# Altium schematic symbol library RPI_EIT_SchLib.SchLib: 25 symbols
Pins are listed as number, name and electrical type; pins without a type are passive.

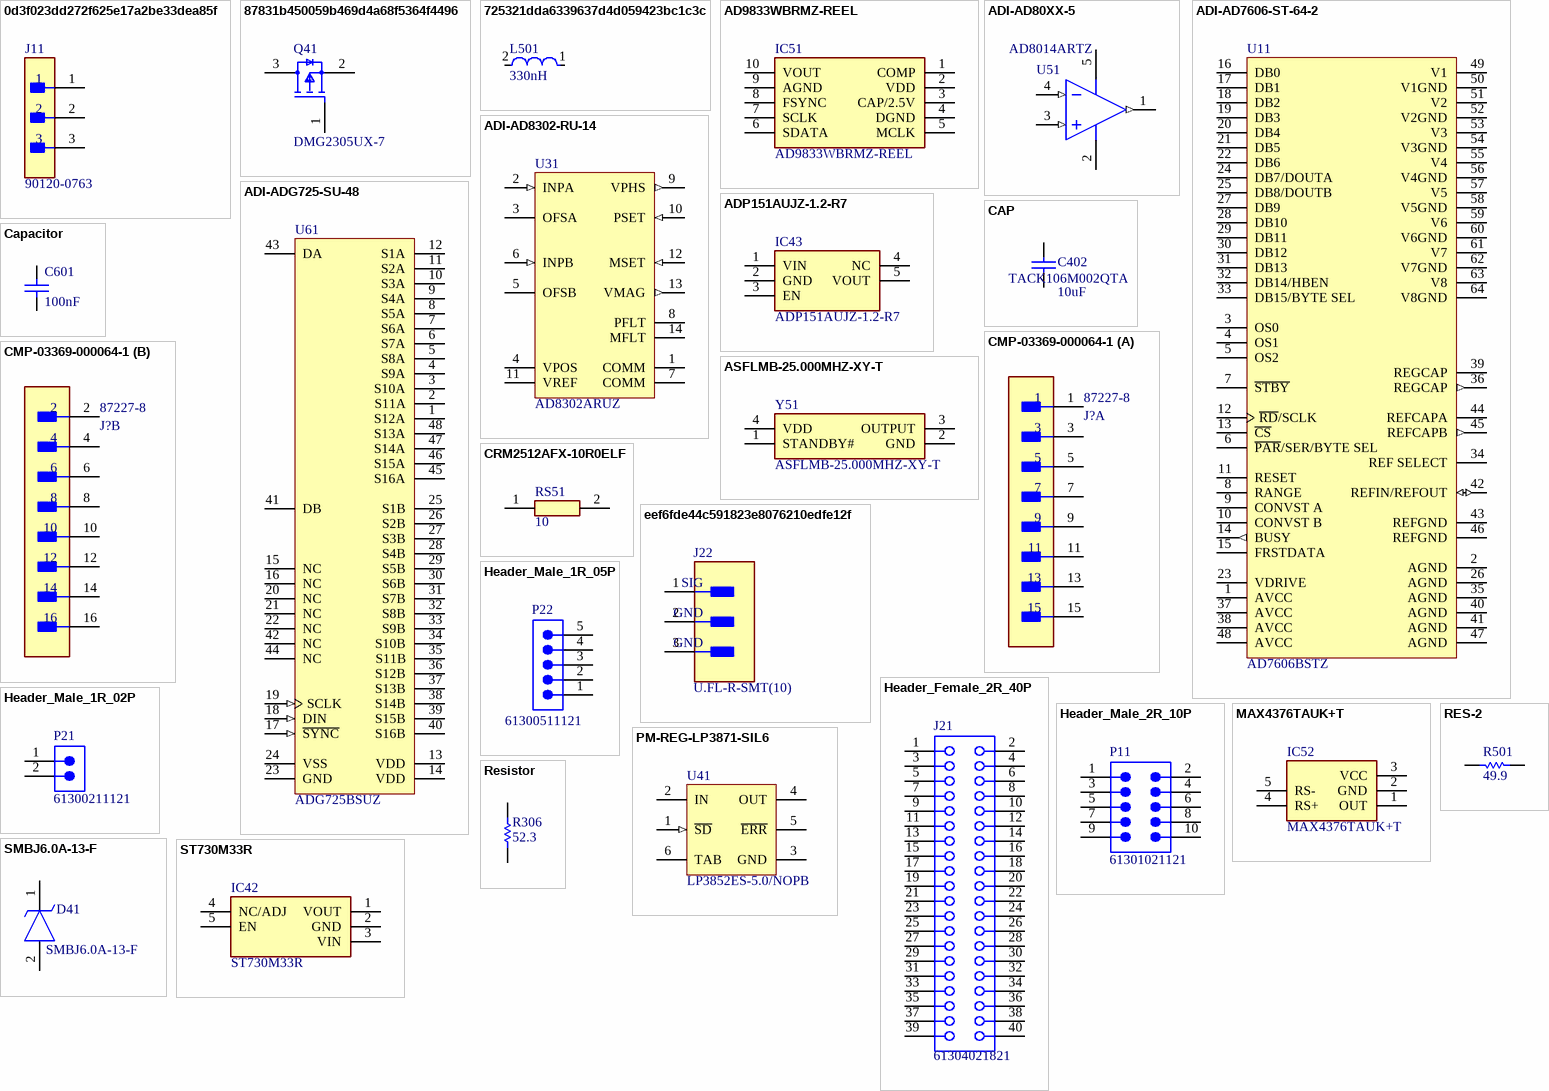
[diagram p0: symbols 0d3f023dd272f625e17a2be33dea85f to ST730M33R]

## 0d3f023dd272f625e17a2be33dea85f
designator J11, comment 90120-0763
CONN HEADER VERT 3POS 2.54MM; Manufacturer: Molex; Voltage Rating: 350V; Number Of Contacts: 3; Conn Orientation: Vertical; Current Rating: 3A; Conn Gender: Male; Package: 90120-0763; ComponentLink2Description: Datasheet; Height: 5.8mm; Manufacturer Part Number: 90120-0763; Temperature Range High: +125°C; RoHS: TRUE; ComponentLink2URL: https://www.molex.com/webdocs/datasheets/pdf/en-us/0901200763_PCB_HEADERS.pdf; Device Class L2: Headers and Wire Housings; Temperature: -55°C to +125°C; Device Class L1: Connectors; Pitch: 2.54mm; Footprint Url: https://www.molex.com/pdm_docs/sd/901200763_sd.pdf; Device Class L3: unset; Temperature Range Low: -55°C; Number Of Rows: 1; Category: Conn; Lead Free: Yes; Mouser Description: Board-To-Board Connector, C-Grid III 90120 Series, Through Hole, Header, 3, 2.54 mm; Octopart: https://octopart.com/90120-0763-molex-655433; Contact Material: Gold,Nickel; Automotive: No; Digikey Description: CONN HEADER VERT 3POS 2.54MM
footprint FP-90120-0763-MFG
pins: 1, 2, 3

## 87831b450059b469d4a68f5364f4496
designator Q41, comment DMG2305UX-7
MOSFET P-CH 20V 4.2A SOT23; Turn-On Delay Time: 10.8ns; Turn-Off Delay Time: 79.3ns; Threshold Voltage: -900mV; Rise Time: 13.7ns; Gate to Source Voltage (Vgs): 8V; Rds On Max: 52mR; Element Configuration: Single; Fall Time: 34.7ns; Max Power Dissipation: 1.4W; Drain to Source Resistance: 200mR; Number of Channels: 1; Input Capacitance: 808pF; Lead Free: Lead Free; Number of Pins: 3; Length: 3mm; Continuous Drain Current (ID): 4.2A; Contact Plating: Tin; Mount: Surface Mount; Weight: 0.000282oz; Min Operating Temperature: -55°C; Package Quantity: 3000; Drain to Source Voltage (Vdss): 20V; On-State Resistance: 52MR; Max Operating Temperature: 150°C; Height: 1.1mm; REACH SVHC: No SVHC; Packaging: Tape and Reel; Radiation Hardening: No; Case/Package: SOT-23; Width: 1.4mm
footprint FP-SOT23-IPC_A
pins: 1 GATE, 2 SOURCE, 3 DRAIN

## 725321dda6339637d4d059423bc1c3c
designator L501, comment Inductance: 330nH  (hidden comment: LQW18AN10NG00D)
Wire Wound RF Inductor 10nH ±2% 650mA 0.11Ω 0603 (1608); DC Resistance (DCR): 110mR; Q Factor: 35; Shielding: Unshielded; Test Frequency: 100MHz; Current: 550mA; Self Resonant Frequency: 6GHz; Radiation Hardening: No; Depth: 1mm; Case Code (Imperial): 0603; Inductance Tolerance: 2%; Series: LQW18A_00; Tolerance: 2%; Weight: 0.000106oz; Rated Current-Max: 650mA; Mount: Surface Mount; Series Resistance: 110mR; REACH SVHC: No SVHC; Current Rating: 650mA; Case Code (Metric): 1608; Lead Free: Lead Free; Resistor Type: Wirewound; Package Quantity: 4000; Termination: SMD/SMT; DC Current: 650mA; Height: 0.8mm; Min Operating Temperature: -55°C; Military Standard: Not; Max Operating Temperature: 125°C; Max DC Current: 650mA; Case/Package: 0603; Number of Pins: 2; Packaging: Tape and Reel; Width: 0.8mm; Length: 1.6mm
footprint IND_0402HL-821XJRU
pins: 1, 2

## AD9833WBRMZ-REEL
designator IC51
Integrated Circuit; Manufacturer_Name: Analog Devices; Datasheet Link: https://componentsearchengine.com/Datasheets/1/AD9833WBRMZ-REEL.pdf; Height: 1.1mm; Manufacturer_Part_Number: AD9833WBRMZ-REEL; Mouser Part Number: 584-AD9833WBRMZ-REEL; Mouser Price/Stock: https://www.mouser.co.uk/ProductDetail/Analog-Devices/AD9833WBRMZ-REEL?qs=pqQDoYZ2quYFMaVwD82%2FEg%3D%3D; Arrow Part Number: AD9833WBRMZ-REEL; Arrow Price/Stock: https://www.arrow.com/en/products/ad9833wbrmz-reel/analog-devices?region=nac
footprint ADI-RM-10_L (TSSOP, 10-Leads, Body 3x3mm, Pitch 0.5mm, IPC High Density)
pins: 1 COMP, 2 VDD, 3 CAP/2.5V, 4 DGND, 5 MCLK, 6 SDATA, 7 SCLK, 8 FSYNC, 9 AGND, 10 VOUT

## ADI-AD80XX-5
designator U51, comment AD8014ARTZ
Single Channel Very Low Noise Operational Amplifier, 400 MHz BW, 4 KV/us SR, Industrial, 5-pin SOT23 (RJ-5), Reel; Manufacturer: Analog Devices; Generic Part Number: AD8014; PartNumber: AD8014ARTZ-REEL7; Amplifiers Per Package: 1; Input Bias Current: 5uA; V Span Min: 4.5V; Small Signal Bandwidth: 400MHz; V Span Max: 12V; Iq/Amp: 1.3mA; Slew Rate: 4KV/us; Input Offset Voltage: 2mV; DatasheetVersion: Rev. C; ComponentLink1Description: Manufacturer URL; PackageVersion: 121608-A; PackageReference: RJ-5; ComponentLink1URL: http://www.analog.com/en/index.html; PackageDescription: 5-Pin Small Outline Transistor Package, Body 2.9 x 1.6 mm, Pitch 0.95 mm; ComponentLink2Description: Datasheet; RevisionNote: Symbol corrected, Pin 2 orientation reversed; ComponentLink2URL: http://www.analog.com/static/imported-files/data_sheets/AD8014.pdf; Mounting Technology: Surface Mount; ComponentLink3Description: Package Specification; Code_JEDEC: MO-178-AA; ComponentLink3URL: http://www.analog.com/static/imported-files/packages/PKG_PDF/SOT-23(RJ)/RJ_5.pdf
footprint ADI-RJ-5_L (SOT-23, 5-Leads, Body 2.9x1.6mm, Pitch 0.95mm, IPC High Density)
pins: 1 VOUT (out), 2 -VS (power), 3 +IN (in), 4 -IN (in), 5 +VS (power)

## ADI-AD7606-ST-64-2
designator U11, comment AD7606BSTZ
8 Channel Data Acquisition System with 16-Bit, Bipolar Input, Simultaneous Sampling Analog-to-Digital Converter with Parallel, Serial and SPI Interface, 200KSPS, -40 to +85 degC, ST-64-2, Pb-Free, Tray; Generic Part Number: AD7606; Manufacturer: Analog Devices; Throughput Rate (SPS): 200K; Resolution (Bits): 16; Channels: 8; Interface: Par, Ser, SPI; ComponentLink2Description: Datasheet; ComponentLink1URL: http://www.analog.com/en/index.html; ComponentLink4URL: http://www.analog.com/en/analog-to-digital-converters/ad-converters/ad7606/products/product.html; DatasheetVersion: Rev.C; RoHS: Y; Code_JEDEC: MS-026-BCD; PartNumber: AD7606BSTZ; PackageVersion: 051706-A; Mounting Technology: Surface Mount; ComponentLink3URL: http://www.analog.com/static/imported-files/packages/PKG_PDF/LQFP%28ST%29/ST_64_2.pdf; PackageDescription: 64-Lead Low Profile Quad Flat Package [LQFP]; Packing: Tray; PackageReference: ST-64-2; ComponentLink1Description: Manufacturer URL; ComponentLink4Description: Product URL; ComponentLink2URL: http://www.analog.com/static/imported-files/data_sheets/AD7606_7606-6_7606-4.pdf; ComponentLink3Description: Package Specification; Supplier: Mouser; Supplier Part Number: 584-AD7606BSTZ; Manufacturer Part Number: AD7606BSTZ; Category: Analog to Digital Converters (ADCs); Stock: 2011; Pricing: 1=39,63, 10=37, 50=32,25, 100=31,46, 1000=31,46, 10000=31,46 (USD); ComponentLink5URL: https://datasheet.ciiva.com/1143/1595896-1143555.pdf?src-supplier=Element14; ComponentLink5Description: https://datasheet.ciiva.com/1143/1595896-1143555.pdf?src-supplier=Element14; ComponentLink6URL: https://datasheet.ciiva.com/3037/ad7606-7606-6-7606-4-3037717.pdf?src-supplier=Avnet; ComponentLink6Description: https://datasheet.ciiva.com/3037/ad7606-7606-6-7606-4-3037717.pdf?src-supplier=Avnet
footprint ST-64-2_L (Thin QFP, 64-Leads, Body 10x10mm, Pitch 0.5mm, IPC High Density)
pins: 1 AVCC (power) "Analog Supply Voltage, 4.75 V to 5.25 V. This supply voltage is applied to the internal front-end amplifiers and to the ADC core. These supply pins should be decoupled to AGND.", 2 AGND (power) "Analog Ground. These pins are the ground reference points for all analog circuitry on the AD7606. All analog input signals and external reference signals should be referred to these pins. All six of these AGND pins should (See Datasheet)", 3 OS0 "Oversampling Mode Pins. Logic inputs. These inputs are used to select the oversampling ratio. OS 2 is the MSB control bit, and OS 0 is the LSB control bit. See the Digital Filter section for more details about the (See Datasheet)", 4 OS1 "Oversampling Mode Pins. Logic inputs. These inputs are used to select the oversampling ratio. OS 2 is the MSB control bit, and OS 0 is the LSB control bit. See the Digital Filter section for more details about the (See Datasheet)", 5 OS2 "Oversampling Mode Pins. Logic inputs. These inputs are used to select the oversampling ratio. OS 2 is the MSB control bit, and OS 0 is the LSB control bit. See the Digital Filter section for more details about the (See Datasheet)", 6 ~{PAR}/SER/BYTE SEL "Parallel/Serial/Byte Interface Selection Input. Logic input. If this pin is tied to a logic low, the parallel interface is selected. If this pin is tied to a logic high,the serial interface is selected. Parallel byte (See Datasheet)", 7 ~{STBY} "Standby Mode Input. This pin is used to place the AD7606/AD7606-6/AD7606-4 into one of two power-down modes: standby mode or shutdown mode. The power-down mode entered depends on the state of the RANGE pin, as shown in Table (See Datasheet)", 8 RANGE "Analog Input Range Selection. Logic input. The polarity on this pin deter-mines the input range of the analog input channels. If this pin is tied to a logic high, the analog input range is +/-10 V for all channels. If this (See Datasheet)", 9 CONVST A "Conversion Start Input A. Logic inputs. These logic inputs are used to initiate conversions on the analog input channels. For simultaneous sampling of all input channels, CONVST A and CONVST B can be shorted together, and a (See Datasheet)", 10 CONVST B "Conversion Start Input B. Logic inputs. These logic inputs are used to initiate conversions on the analog input channels. For simultaneous sampling of all input channels, CONVST A and CONVST B can be shorted together, and a (See Datasheet)", 11 RESET "Reset Input. When set to logic high, the rising edge of RESET resets the AD7606/AD7606-6/AD7606-4. The part should receive a RESET pulse after power-up. The RESET high pulse should typically be 50 ns wide. If a RESET pulse (See Datasheet)", 12 ~{RD}/SCLK "Parallel Data Read Control Input When the Parallel Interface Is Selected (R\D\)/ Serial Clock Input When the Serial Interface Is Selected (SCLK). When both C\S\ and R\D\ are logic low in parallel mode, the output bus is (See Datasheet)", 13 ~{CS} "Chip Select. This active low logic input frames the data transfer. When both C\S\ and R\D\ are logic low in parallel mode, the DB[15:0] output bus is enabled and the conversion result is output on the parallel data bus lines.(See Datasheet)", 14 BUSY (out) "Busy Output. This pin transitions to a logic high after both CONVST A and CONVST B rising edges and indicates that the conversion process has started. The BUSY output remains high until the conversion process for all (See Datasheet)", 15 FRSTDATA (hiz) "Digital Output. The FRSTDATA output signal indicates when the first channel, V1, is being read back on the parallel, byte, or serial interface. When the C\S\ input is high, the FRSTDATA output pin is in three-state. The (See Datasheet)", 16 DB0 "Parallel Output Data Bit, DB6 to DB0. When P\A\R\/SER/BYTE SEL = 0, this pin acts as three-state parallel digital input/output pin. When C\S\ and R\D\ are low, these pins are used to output DB6 to DB0 of the conversion (See Datasheet)", 17 DB1 "Parallel Output Data Bit, DB6 to DB0. When P\A\R\/SER/BYTE SEL = 0, this pin acts as three-state parallel digital input/output pin. When C\S\ and R\D\ are low, these pins are used to output DB6 to DB0 of the conversion (See Datasheet)", 18 DB2 "Parallel Output Data Bit, DB6 to DB0. When P\A\R\/SER/BYTE SEL = 0, this pin acts as three-state parallel digital input/output pin. When C\S\ and R\D\ are low, these pins are used to output DB6 to DB0 of the conversion (See Datasheet)", 19 DB3 "Parallel Output Data Bit, DB6 to DB0. When P\A\R\/SER/BYTE SEL = 0, this pin acts as three-state parallel digital input/output pin. When C\S\ and R\D\ are low, these pins are used to output DB6 to DB0 of the conversion (See Datasheet)", 20 DB4 "Parallel Output Data Bit, DB6 to DB0. When P\A\R\/SER/BYTE SEL = 0, this pin acts as three-state parallel digital input/output pin. When C\S\ and R\D\ are low, these pins are used to output DB6 to DB0 of the conversion (See Datasheet)", 21 DB5 "Parallel Output Data Bit, DB6 to DB0. When P\A\R\/SER/BYTE SEL = 0, this pin acts as three-state parallel digital input/output pin. When C\S\ and R\D\ are low, these pins are used to output DB6 to DB0 of the conversion (See Datasheet)", 22 DB6 "Parallel Output Data Bit, DB6 to DB0. When P\A\R\/SER/BYTE SEL = 0, this pin acts as three-state parallel digital input/output pin. When C\S\ and R\D\ are low, these pins are used to output DB6 to DB0 of the conversion (See Datasheet)", 23 VDRIVE (power) "Logic Power Supply Input. The voltage (2.3 V to 5.25 V) supplied at this pin determines the operating voltage of the interface. This pin is nominally at the same supply as the supply of the host interface (that is, DSP and (See Datasheet)", 24 DB7/DOUTA "Parallel Output Data Bit 7 (DB7)/Serial Interface Data Output Pin (DoutA). When P\A\R\/SER/BYTE SEL = 0, this pin acts as a three-state parallel digital input/output pin. When C\S\ and R\D\ are low, this pin is used to (See Datasheet)", 25 DB8/DOUTB "Parallel Output Data Bit 8 (DB8)/Serial Interface Data Output Pin (DoutB).  When P\A\R\/SER/BYTE SEL = 0, this pin acts as a three-state parallel digital input/output pin. When C\S\ and R\D\ are low, this pin is used to (See Datasheet)", 26 AGND (power) "Analog Ground. These pins are the ground reference points for all analog circuitry on the AD7606. All analog input signals and external reference signals should be referred to these pins. All six of these AGND pins should (See Datasheet)", 27 DB9 "Parallel Output Data Bit, DB13 to DB9. When P\A\R\/SER/BYTE SEL = 0, this pin acts as three-state parallel digital input/output pin. When C\S\ and R\D\ are low, these pins are used to output DB13 to DB9 of the conversion (See Datasheet)", 28 DB10 "Parallel Output Data Bit, DB13 to DB9. When P\A\R\/SER/BYTE SEL = 0, this pin acts as three-state parallel digital input/output pin. When C\S\ and R\D\ are low, these pins are used to output DB13 to DB9 of the conversion (See Datasheet)", 29 DB11 "Parallel Output Data Bit, DB13 to DB9. When P\A\R\/SER/BYTE SEL = 0, this pin acts as three-state parallel digital input/output pin. When C\S\ and R\D\ are low, these pins are used to output DB13 to DB9 of the conversion (See Datasheet)", 30 DB12 "Parallel Output Data Bit, DB13 to DB9. When P\A\R\/SER/BYTE SEL = 0, this pin acts as three-state parallel digital input/output pin. When C\S\ and R\D\ are low, these pins are used to output DB13 to DB9 of the conversion (See Datasheet)", 31 DB13 "Parallel Output Data Bit, DB13 to DB9. When P\A\R\/SER/BYTE SEL = 0, this pin acts as three-state parallel digital input/output pin. When C\S\ and R\D\ are low, these pins are used to output DB13 to DB9 of the conversion (See Datasheet)", 32 DB14/HBEN "Parallel Output Data Bit 14 (DB14)/High Byte Enable (HBEN). When P\A\R\/ SER/BYTE SEL = 0, this pin acts as a three-state parallel digital output pin. When C\S\ and R\D\ are low, this pin is used to output DB14 of the (See Datasheet)", 33 DB15/BYTE SEL "Parallel Output Data Bit 15 (DB15)/Parallel Byte Mode Select (BYTE SEL).  When P\A\R\/SER/BYTE SEL = 0, this pin acts as a three-state parallel digital output pin. When C\S\ and R\D\ are low, this pin is used to output DB15 (See Datasheet)", 34 REF SELECT "Internal/External Reference Selection Input. Logic input. If this pin is set to logic high, the internal reference is selected and enabled. If this pin is set to logic low, the internal reference is disabled and an external (See Datasheet)", 35 AGND (power) "Analog Ground. These pins are the ground reference points for all analog circuitry on the AD7606. All analog input signals and external reference signals should be referred to these pins. All six of these AGND pins should (See Datasheet)", 36 REGCAP (out) "Decoupling Capacitor Pin for Voltage Output from Internal Regulator.  These output pins should be decoupled separately to AGND using a 1 uF capacitor. The voltage on these pins is in the range of 2.5 V to 2.7 V.", 37 AVCC (power) "Analog Supply Voltage, 4.75 V to 5.25 V. This supply voltage is applied to the internal front-end amplifiers and to the ADC core. These supply pins should be decoupled to AGND.", 38 AVCC (power) "Analog Supply Voltage, 4.75 V to 5.25 V. This supply voltage is applied to the internal front-end amplifiers and to the ADC core. These supply pins should be decoupled to AGND.", 39 REGCAP "Decoupling Capacitor Pin for Voltage Output from Internal Regulator.  These output pins should be decoupled separately to AGND using a 1 uF capacitor. The voltage on these pins is in the range of 2.5 V to 2.7 V.", 40 AGND (power) "Analog Ground. These pins are the ground reference points for all analog circuitry on the AD7606. All analog input signals and external reference signals should be referred to these pins. All six of these AGND pins should (See Datasheet)", 41 AGND (power) "Analog Ground. These pins are the ground reference points for all analog circuitry on the AD7606. All analog input signals and external reference signals should be referred to these pins. All six of these AGND pins should (See Datasheet)", 42 REFIN/REFOUT (io) "Reference Input (REFIN)/Reference Output (REFOUT). The on-chip reference of 2.5 V is available on this pin for external use if the REF SELECT pin is set to logic high. Alternatively, the internal reference can be disabled by (See Datasheet)", 43 REFGND (power) "Reference Ground Pins. These pins should be connected to AGND.", 44 REFCAPA "Reference Buffer Output Force/Sense Pins. These pins must be connected together and decoupled to AGND using a low ESR, 10 uF ceramic capacitor. The voltage on these pins is typically 4.5 V.", 45 REFCAPB (out) "Reference Buffer Output Force/Sense Pins. These pins must be connected together and decoupled to AGND using a low ESR, 10 uF ceramic capacitor. The voltage on these pins is typically 4.5 V.", 46 REFGND (power) "Reference Ground Pins. These pins should be connected to AGND.", 47 AGND (power) "Analog Ground. These pins are the ground reference points for all analog circuitry on the AD7606. All analog input signals and external reference signals should be referred to these pins. All six of these AGND pins should (See Datasheet)", 48 AVCC (power) "Analog Supply Voltage, 4.75 V to 5.25 V. This supply voltage is applied to the internal front-end amplifiers and to the ADC core. These supply pins should be decoupled to AGND.", 49 V1 "Analog Input. This pin is a single-ended analog input. The analog input range of this channel is determined by the RANGE pin.", 50 V1GND (power) "Analog Input Ground Pins. These pins correspond to Analog Input Pin V1 and Analog Input Pin V2. All analog input AGND pins should connect to the AGND plane of a system.", 51 V2 "Analog Input. This pin is a single-ended analog input. The analog input range of this channel is determined by the RANGE pin.", 52 V2GND (power) "Analog Input Ground Pins. These pins correspond to Analog Input Pin V1 and Analog Input Pin V2. All analog input AGND pins should connect to the AGND plane of a system.", 53 V3 "Analog Input 3. For the AD7606-4, this is an AGND pin.", 54 V3GND (power) "Analog Input Ground Pin. For the AD7606-4, this is an AGND pin.", 55 V4 "Analog Input 4. For the AD7606-6 and the AD7606-4, this is an AGND pin.", 56 V4GND (power) "Analog Input Ground Pin. For the AD7606-6 and AD7606-4, this is an AGND pin.", 57 V5 "Analog Inputs. These pins are single-ended analog inputs. The analog input range of these channels is determined by the RANGE pin.", 58 V5GND (power) "Analog Input Ground Pins. All analog input AGND pins should connect to the AGND plane of a system.", 59 V6 "Analog Inputs. These pins are single-ended analog inputs.", 60 V6GND (power) "Analog Input Ground Pins. All analog input AGND pins should connect to the AGND plane of a system.", 61 V7 "Analog Input Pins. For the AD7606-4, this is an AGND pin.", 62 V7GND (power) "Analog Input Ground Pins. For the AD7606-4, this is an AGND pin.", 63 V8 "Analog Input Pin. For the AD7606-4 and AD7606-6, this is an AGND pin.", 64 V8GND (power) "Analog Input Ground Pin. For the AD7606-4 and AD7606-6, this is an AGND pin."

## ADI-AD8302-RU-14
designator U31, comment AD8302ARUZ
LF-2.7 GHz RF/IF Gain and Phase Detector, 60ns Response Time, RU-14, Pb-Free, 96 Tube; Voltage Supply (V): 2.7 to 5.5; RF Frequency (MHz): 2700; Dynamic Range (dB): 60dB; Supply Current: 19mA; Temp Stability (dB): 1dB; Product Description: Dual-Channel Gain and Phase Outputs; ComponentLink1URL: www.analog.com; Response Time (ns typ): 60ns; ComponentLink1Description: Manufacturer URL; Code_JEDEC: MO-153AB-1; ComponentLink3URL: http://www.analog.com/static/imported-files/packages/36057385283879153717235186773RU14.pdf; PackageReference: RU-14; PackageVersion: Aug-2002; DatasheetVersion: Rev. A; ComponentLink2URL: http://www.analog.com/static/imported-files/data_sheets/AD8302.pdf; ComponentLink3Description: Package Specification; PackageDescription: 14-Lead Thin Shrink Small Outline Package [TSSOP]; ComponentLink2Description: Datasheet
footprint ADI-RU-14_L (TSOP, 14-Leads, Body 5x4.4mm, Pitch 0.65mm, IPC High Density)
pins: 1 COMM (power) "Device Common. Connect to low impedance ground.", 2 INPA (in) "High Input Impedance to Channel A. Must be ac-coupled.", 3 OFSA "A capacitor to ground at this pin sets the offset compensation filter corner and provides input decoupling.", 4 VPOS (power) "Voltage Supply (VS), 2.7 V to 5.5 V.", 5 OFSB "A capacitor to ground at this pin sets the offset compensation filter corner and provides input decoupling.", 6 INPB (in) "Input to Channel B. Same structure as INPA.", 7 COMM (power) "Device Common. Connect to low impedance ground.", 8 PFLT "Low Pass Filter Terminal for the Phase Output.", 9 VPHS (out) "Single-Ended Output Proportional to the Phase Difference between INPA and INPB.", 10 PSET (in) "Feedback Pin for Scaling of VPHS Output Voltage in Measurement Mode. Apply a setpoint voltage for controller mode.", 11 VREF (power) "Internally Generated Reference Voltage (1.8 V Nominal)", 12 MSET (in) "Feedback Pin for Scaling of VMAG Output Voltage Measurement Mode.Accepts a set point voltage in controller mode", 13 VMAG (out) "Single-Ended Output. Output voltage proportional to the decibel ratio of signals applied to INPA and INPB.", 14 MFLT "Low Pass Filter Terminal for the Magnitude Output"

## ADI-ADG725-SU-48
designator U61, comment ADG725BSUZ
1.8 to 5.5 V / +/-2.5 V, 4 Ohm, Serially Controlled, 16-Channel Analog Multiplexer, -40 to 85 degC, 48-pin QFP (SU-48), Tray; Manufacturer: Analog Devices; Supply V Guar Performance: Dual_(+/-2.5V), Single_(+3V), Single_(+5V); Max Analog Signal Range: Vss to Vdd; Ron (ohms): 4; t transition (s): 42n; Bandwidth (Hz): 34M; ComponentLink3Description: Package Specification; PackageDescription: 48-Pin Thin Plastic Quad Flat Package, Body 7 x 7 mm, Pitch 0.5 mm; ComponentLink2Description: Datasheet; ComponentLink2URL: http://www.analog.com/static/imported-files/data_sheets/ADG725_731.pdf; Packing: Tray; ComponentLink3URL: http://www.analog.com/static/imported-files/packages/470644706845302410119987SU48_7x7.pdf; PackageReference: SU-48; PartNumber: ADG725BSUZ; Code_JEDEC: MS-026ABC; DatasheetVersion: Rev. A; ComponentLink1Description: Manufacturer URL; ComponentLink1URL: http://www.analog.com/en/index.html; Mounting Technology: Surface Mount
footprint ADI-SU-48_N (QFP, 48-Leads, Body 7x7mm, Pitch 0.5mm, IPC Medium Density)
pins: 1 S12A "Source. May be an input or output.", 2 S11A "Source. May be an input or output.", 3 S10A "Source. May be an input or output.", 4 S9A "Source. May be an input or output.", 5 S8A "Source. May be an input or output.", 6 S7A "Source. May be an input or output.", 7 S6A "Source. May be an input or output.", 8 S5A "Source. May be an input or output.", 9 S4A "Source. May be an input or output.", 10 S3A "Source. May be an input or output.", 11 S2A "Source. May be an input or output.", 12 S1A "Source. May be an input or output.", 13 VDD (power) "Power Supply Input. These parts can be operated from a single supply of 1.8 V to 5.5 V and a dual supply of +/-2.5 V.", 14 VDD (power) "Power Supply Input. These parts can be operated from a single supply of 1.8 V to 5.5 V and a dual supply of +/-2.5 V.", 15 NC "No connect.", 16 NC "No connect.", 17 ~{SYNC} (in) "Active Low Control Input. This is the frame synchronization signal for the input data. When S\Y\N\C\ goes low, it powers on the SCLK and DIN buffers and the input Shift Register is enabled. An 8-bit counter is also enabled. (See Datasheet)", 18 DIN (in) "Serial Data Input. Data is clocked into the 8-bit Input Register MSB first on the falling edge of the serial clock input.", 19 SCLK (in) "Serial Clock Input. Data is clocked into the Input Shift Register on the falling edge of the serial clock input. These devices can accommodate serial input rates of up to 30 MHz.", 20 NC "No connect.", 21 NC "No connect.", 22 NC "No connect.", 23 GND (power) "Ground Reference", 24 VSS (power) "Most Negative Power Supply in a Dual-Supply Application. In single-supply applications, connect to GND.", 25 S1B "Source. May be an input or output.", 26 S2B "Source. May be an input or output.", 27 S3B "Source. May be an input or output.", 28 S4B "Source. May be an input or output.", 29 S5B "Source. May be an input or output.", 30 S6B "Source. May be an input or output.", 31 S7B "Source. May be an input or output.", 32 S8B "Source. May be an input or output.", 33 S9B "Source. May be an input or output.", 34 S10B "Source. May be an input or output.", 35 S11B "Source. May be an input or output.", 36 S12B "Source. May be an input or output.", 37 S13B "Source. May be an input or output.", 38 S14B "Source. May be an input or output.", 39 S15B "Source. May be an input or output.", 40 S16B "Source. May be an input or output.", 41 DB "Drain. May be an input or output.", 42 NC "No connect.", 43 DA "Drain. May be an input or output.", 44 NC "No connect.", 45 S16A "Source. May be an input or output.", 46 S15A "Source. May be an input or output.", 47 S14A "Source. May be an input or output.", 48 S13A "Source. May be an input or output."

## ADP151AUJZ-1.2-R7
designator IC43
Integrated Circuit; Manufacturer_Name: Analog Devices; Datasheet Link: https://componentsearchengine.com/Datasheets/2/ADP151AUJZ-1.2-R7.pdf; Height: 1mm; Manufacturer_Part_Number: ADP151AUJZ-1.2-R7; Mouser Part Number: 584-ADP151AUJZ-1.2R7; Mouser Price/Stock: https://www.mouser.co.uk/ProductDetail/Analog-Devices/ADP151AUJZ-1.2-R7?qs=WIvQP4zGanhSFSaaw6omsw%3D%3D; Arrow Part Number: ADP151AUJZ-1.2-R7; Arrow Price/Stock: https://www.arrow.com/en/products/adp151aujz-1.2-r7/analog-devices?region=nac
footprint ADI-UJ-5_L (SOT23, 5-Leads, Body 2.9x1.6mm, Pitch 0.95mm, IPC High Density)
pins: 1 VIN, 2 GND, 3 EN, 4 NC, 5 VOUT

## ASFLMB-25.000MHZ-XY-T
designator Y51
Crystal or Oscillator; Manufacturer_Name: ABRACON; Datasheet Link: https://abracon.com/Oscillators/ASFLMB.pdf; Height: 0.9mm; Manufacturer_Part_Number: ASFLMB-25.000MHZ-XY-T; Mouser Part Number: 815-ASFLMB-25-XY-T; Mouser Price/Stock: https://www.mouser.co.uk/ProductDetail/ABRACON/ASFLMB-25.000MHZ-XY-T?qs=CnD89xF1VSmONT2LProkzQ%3D%3D; Arrow Part Number: ASFLMB-25.000MHZ-XY-T; Arrow Price/Stock: https://www.arrow.com/en/products/asflmb-25.000mhz-xy-t/abracon
footprint FP-ASFL3-MFG
pins: 1 STANDBY#, 2 GND, 3 OUTPUT, 4 VDD

## CAP
designator C402, comment TACK106M002QTA  Capacitance Const: 10uF
Manufacturer: AVX Interconnect / Elco; Part Number: TACK106M002QTA
footprint CAPC1005X70X10LL20T00 (Chip Capacitor, 2-Leads, Body 1.00x0.50mm, IPC High Density)
pins: 1, 2
1 alternate drawing of the same symbol

## Capacitor
designator C601, comment value 100nF  (hidden comment: generic)
Device Class L1: Passive Components; Device Class L2: Capacitors
footprint CAPC1005X55X30LL05T10 (Chip Capacitor, 2-Leads, Body 1.00x0.50mm, IPC High Density)
footprint FP-C0603C-CF-IPC_A
pins: 1, 2

## CMP-03369-000064-1
designator J?, comment 87227-8
CONN HEADER VERT 16POS 2.54MM; Manufacturer: TE Connectivity; Conn Gender: Male; Conn Orientation: Straight; Current Rating: 3A; Number Of Contacts: 16; Mouser Description: Headers & Wire Housings UNSHRD VERT DUAL 16; Lead Free: Yes; Digikey Description: CONN HEADER VERT 16POS 2.54MM; Device Class L3: unset; Automotive: No; Height: 0.428inch; Temperature Range Low: -65°C; Device Class L1: Connectors; RoHS: TRUE; Pitch: 2.54mm; Package: 0; Manufacturer Part Number: 87227-8; Number Of Rows: 2; Footprint Url: https://www.te.com/commerce/DocumentDelivery/DDEController?Action=showdoc&DocId=Customer+Drawing%7F87227%7FH4%7Fpdf%7FEnglish%7FENG_CD_87227_H4.pdf%7F87227-8; ComponentLink2URL: https://www.te.com/usa-en/product-87227-8.datasheet.pdf; ComponentLink2Description: Datasheet; Temperature: -65°C to +105°C; Category: Conn; Temperature Range High: +105°C; Octopart: https://octopart.com/87227-8-te+connectivity-39407754; Device Class L2: Headers and Wire Housings; Contact Material: Gold,Nickel
footprint FP-87227-8-MFG
part A pins: 1, 3, 5, 7, 9, 11, 13, 15
part B pins: 2, 4, 6, 8, 10, 12, 14, 16

## CRM2512AFX-10R0ELF
designator RS51, comment 10
Res Thick Film 2512 10 Ohm 1% 2W ±100ppm/°C Molded SMD SMD Paper T/R; Manufacturer_Name: Bourns; Manufacturer_Part_Number: CRM2512AFX-10R0ELF; Datasheet Link: http://www.bourns.com/data/global/pdfs/CRM0805_1206_2010.pdf; Height: 0.8mm; Mouser Part Number: 652-CRM2512AFX10R0LF; Mouser Price/Stock: https://www.mouser.co.uk/ProductDetail/Bourns/CRM2512AFX-10R0ELF?qs=wd5RIQLrsJh9GcgTtlCG0w%3D%3D; Arrow Part Number: CRM2512AFX-10R0ELF; Arrow Price/Stock: https://www.arrow.com/en/products/crm2512afx-10r0elf/bourns; Supplier: Farnell; Supplier Part Number: 2824741; Manufacturer: Bourns; Manufacturer Part Number: CRM2512AFX-10R0ELF; RoHS: No; Category: Chip SMD Resistors; Stock: 3780; Pricing: 10=0,395, 100=0,312, 500=0,244, 1000=0,209, 2000=0,202 (EUR); ComponentLink1URL: http://www.farnell.com/datasheets/2552937.pdf?src-supplier=Farnell; ComponentLink1Description: http://www.farnell.com/datasheets/2552937.pdf?src-supplier=Farnell; ComponentLink2URL: http://www.farnell.com/datasheets/2552937.pdf?src-supplier=Newark; ComponentLink2Description: http://www.farnell.com/datasheets/2552937.pdf?src-supplier=Newark; ComponentLink3URL: http://www.bourns.com/docs/product-datasheets/crm-a.pdf?src-supplier=Digi-Key; ComponentLink3Description: http://www.bourns.com/docs/product-datasheets/crm-a.pdf?src-supplier=Digi-Key; ComponentLink4URL: https://www.bourns.com/docs/product-datasheets/crm-a.pdf?src-supplier=Digi-Key; ComponentLink4Description: https://www.bourns.com/docs/product-datasheets/crm-a.pdf?src-supplier=Digi-Key; ComponentLink5URL: https://datasheet.octopart.com/CRM2512AFX-10R0ELF-Bourns-datasheet-99878395.pdf?src-supplier=Master+Electronics; ComponentLink5Description: https://datasheet.octopart.com/CRM2512AFX-10R0ELF-Bourns-datasheet-99878395.pdf?src-supplier=Master+Electronics; ComponentLink6URL: https://datasheet.ciiva.com/6550/crm-6550127.pdf?src-supplier=Digi-Key; ComponentLink6Description: https://datasheet.ciiva.com/6550/crm-6550127.pdf?src-supplier=Digi-Key; ComponentLink7URL: https://datasheet.ciiva.com/9122/crm-9122397.pdf?src-supplier=Avnet; ComponentLink7Description: https://datasheet.ciiva.com/9122/crm-9122397.pdf?src-supplier=Avnet; Supplier 1: Farnell; Supplier Part Number 1: 2824741
footprint RESC6331X80N
pins: 1, 2

## eef6fde44c591823e8076210edfe12f
designator J22, comment U.FL-R-SMT(10)
CONN U.FL RCPT STR 50 OHM SMD; Plating: Silver; Connector Type: Coaxial; Frequency: 6GHz; Impedance: 50R; Body Material: Bronze; Dielectric Material: Polymer; Contact Plating: Gold; Termination: Solder; Orientation: Vertical; Contact Material: Brass; Min Operating Temperature: -40°C; Mount: Surface Mount; Lead Free: Lead Free; Max Operating Temperature: 90°C; Radiation Hardening: No; Packaging: Tape and Reel; Body Plating: Silver; Fastening Type: Snap; Max Frequency: 6GHz; Depth: 3.1mm; Package Quantity: 1; Case/Package: SMD/SMT; Housing Color: Beige; Length: 3mm
footprint FP-U_FL-R-SMT_10-MFG
pins: 1 SIG, 2 GND (power), 3 GND (power)

## Header_Female_2R_40P
designator J21, comment 61304021821
NexarPartId: 61924769; Gender: Female; Contact Resistance: 20mΩ; Current Rating: 3A; Operating Supply Voltage: 250V; Orientation: Vertical; Lead Pitch: 2.54mm; Number of Pins: 40; RoHS: Non-Compliant
footprint 61304021821 (Socket Header, Pitch 2.54 mm, THT, Vertical, dual row, 40p)
pins: 1, 2, 3, 4, 5, 6, 7, 8, 9, 10, 11, 12, 13, 14, 15, 16, 17, 18, 19, 20, 21, 22, 23, 24, 25, 26, 27, 28, 29, 30, 31, 32, 33, 34, 35, 36, 37, 38, 39, 40

## Header_Male_1R_02P
designator P21, comment 61300211121
NexarPartId: 20081794; Number of Contacts: 2; Pitch: 2.54mm; Connector Type: Male Pin; Voltage Rating: 250V; Current Rating: 3A; Gender: Male; Contact Resistance: 20mΩ; Height: 8.94mm; Lead Free: Lead Free; Number of Pins: 2; Termination: Through Hole; RoHS: Compliant; Lead Pitch: 2.54mm; REACH SVHC: No SVHC; Housing Material: PBT; Contact Mating Length: 5.9944mm; Min Operating Temperature: -40°C; Orientation: Vertical; Contact Material: Copper; Contact Gender: Male; Max Operating Temperature: 125°C; Number of Rows: 1; Number of Positions: 2; Packaging: Bulk; Contact Plating: Gold; Mount: Through Hole; Color: Black; Operating Supply Voltage: 250V
footprint 61300211121 (Pin Header, pitch 2.54 mm, THT, Vertical, single row, 2p)
pins: 1, 2

## Header_Male_1R_05P
designator P22, comment 61300511121
NexarPartId: 32855526; Connector Type: Male Pin; Gender: Male; Contact Resistance: 20mΩ; Pitch: 2.54mm; Operating Supply Voltage: 250V; Current Rating: 3A; Number of Contacts: 5; Lead Free: Lead Free; Color: Black; Packaging: Bulk; Lead Pitch: 2.54mm; Contact Material: Copper; Min Operating Temperature: -40°C; Contact Mating Length: 5.9944mm; Voltage Rating: 250V; Number of Pins: 5; Number of Positions: 5; Height: 8.89mm; Orientation: Vertical; REACH SVHC: Unknown; RoHS: Compliant; Contact Plating: Gold; Max Operating Temperature: 105°C; Mount: Through Hole; Number of Rows: 1; Termination: Solder
footprint 61300511121 (Pin Header, pitch 2.54 mm, THT, Vertical, single row, 5p)
pins: 1, 2, 3, 4, 5

## Header_Male_2R_10P
designator P11, comment 61301021121
NexarPartId: 18818163; Connector Type: Male Pin; Insulation Resistance: 1GΩ; Row Spacing: 2.54mm; Insulation: Insulated; Number of Positions: 10; Current Rating: 3A; Voltage Rating: 250V; Gender: Male; Contact Resistance: 20mΩ; Contact Gender: Male; Number of Rows: 2; Min Operating Temperature: -40°C; Mount: Through Hole; Packaging: Bulk; Length: 12.7mm; Pitch: 2.54mm; RoHS: Compliant; Height: 2.54mm; Lead Pitch: 2.54mm; Number of Pins: 10; Housing Material: PBT; Orientation: Vertical; Flammability Rating: UL94 V-0; Termination: Through Hole; Width: 12.7mm; Color: Black; Contact Mating Length: 5.9944mm; Max Operating Temperature: 105°C; Operating Supply Voltage: 250V; Contact Material: Copper; Number of Contacts: 10; Contact Plating: Gold; REACH SVHC: Unknown
footprint 61301021121 (Pin Header, pitch 2.54 mm, THT, Vertical, dual row, 10p)
pins: 1, 2, 3, 4, 5, 6, 7, 8, 9, 10

## MAX4376TAUK+T
designator IC52
MAX4376 Series 28 V 2MHz Buffer Current Sense Operational Amplifier - SOT-23-5; Manufacturer_Name: Analog Devices; Manufacturer: Maxim; Min Supply Voltage: 3V; Max Supply Voltage: 28V; Slew Rate: 10V/µs; Common Mode Rejection Ratio: 90dB; Operating Supply Current: 1mA; Output Current per Channel: 2mA; Number of Circuits: 1; Input Bias Current: 800uA; Bandwidth: 1.7MHz; Max Supply Current: 2.2mA; Datasheet Link: https://pdfserv.maximintegrated.com/en/ds/MAX4376-MAX4378.pdf; Height: 1.45mm; Manufacturer_Part_Number: MAX4376TAUK+T; Mouser Part Number: 700-MAX4376TAUK+T; Mouser Price/Stock: https://www.mouser.co.uk/ProductDetail/Maxim-Integrated/MAX4376TAUK%2bT?qs=1eQvB6Dk1viezN1idOFyfw%3D%3D; Supplier: Mouser; Supplier Part Number: 700-MAX4376TAUK+T; Manufacturer Part Number: MAX4376TAUK+T; RoHS: Yes; Category: Amplifiers - Op Amps, Buffer, Instrumentation; Stock: 10809; Pricing: 1=2,84, 10=2,55, 50=2,41, 100=2,09, 1000=1,61, 10000=1,55 (USD); Case/Package: SOT-23-5; Pins: 5; Weight: 0.001058oz; Min Operating Temperature: -40°C; Max Operating Temperature: 125°C; Packaging: Tape and Reel; -3db Bandwidth: 2MHz; Package Quantity: 2500; Number of Amplifiers: 1; Series: MAX4376T; Length: 3mm; Width: 1.75mm; RoHS Compliant: Yes; Reach SVHC Compliant: Unknown; ComponentLink1URL: https://datasheet.ciiva.com/30481/0900766b8124c2e5-30481549.pdf?src-supplier=Rs; ComponentLink1Description: https://datasheet.ciiva.com/30481/0900766b8124c2e5-30481549.pdf?src-supplier=Rs; ComponentLink2URL: https://datasheet.ciiva.com/1802/max4376-max4378-1802098.pdf?src-supplier=Digi-Key; ComponentLink2Description: https://datasheet.ciiva.com/1802/max4376-max4378-1802098.pdf?src-supplier=Digi-Key; ComponentLink3URL: https://datasheet.ciiva.com/1802/max4376-max4378-1802099.pdf?src-supplier=Digi-Key; ComponentLink3Description: https://datasheet.ciiva.com/1802/max4376-max4378-1802099.pdf?src-supplier=Digi-Key; ComponentLink4URL: https://datasheet.ciiva.com/2976/max4376-max4378-2976259.pdf?src-supplier=Avnet; ComponentLink4Description: https://datasheet.ciiva.com/2976/max4376-max4378-2976259.pdf?src-supplier=Avnet; ComponentLink5URL: https://datasheet.ciiva.com/1802/max4376-max4378-1802100.pdf?src-supplier=Digi-Key; ComponentLink5Description: https://datasheet.ciiva.com/1802/max4376-max4378-1802100.pdf?src-supplier=Digi-Key; Supplier 1: Mouser; Supplier Part Number 1: 700-MAX4376TAUK+T
footprint MAXM-U5+2_L (SOT23, 5-Leads, Body 2.9x1.625mm, Pitch 0.95mm, IPC High Density)
pins: 1 OUT, 2 GND, 3 VCC, 4 RS+, 5 RS-

## PM-REG-LP3871-SIL6
designator U41, comment LP3852ES-5.0/NOPB
1.5A Fast Ultra Low Dropout Linear Regulator, 5-pin TO-263, Pb-Free; Manufacturer: Texas Instruments; PackageTopMarking: NSUZXYTTE#*LP3852ES*-5.0; PowerWise: N; CompType: LDO IC; ComponentLink1Description: Datasheet URL; PackageDescription: TO-263, Molded, .400 x .390 x .180in, 5 Lead, .067in Pitch, Surface Mount; ComponentLink1URL: http://www.ti.com/general/docs/lit/getliterature.tsp?genericPartNumber=LP3852&fileType=pdf; PinCount: 5; PackageReference: KTT0005B; Code_JEDEC: MO-169-AB; RoHS: Y
footprint KTT0005B_L (DPAK, 5-Leads, Body 10.65x9.65mm, Pitch 1.7mm, IPC High Density)
pins: 1 ~{SD} (in), 2 IN (power), 3 GND (power), 4 OUT (power), 5 ~{ERR} (oc), 6 TAB (power)

## RES-2
designator R501, comment Resistance: 49.9  (hidden comment: RC0603JR-070RL)
Chip Resistor, 0 Ohm, +/- 5%, 0.1 W, -55 to 155 degC, 0603 (1608 Metric), RoHS, Tape and Reel; Manufacturer: Yageo; Temperature Coefficient: 200ppm/degreesC; Voltage Rating: 50V; Power Rating: 100mW; Width: 0.8mm; Max Operating Temperature: 155degC; Tolerance: 5%; Package Reference: 0603; Height: 0.45mm; Depth: 0.8mm; Package Description: 2-Pin Surface Mount Device, Body 1.6 x 0.8 mm; Termination: SMD/SMT; Package Quantity: 5000; Case/Package: 0603; Case Code (Imperial): 0603; Radiation Hardening: No; Number of Pins: 2; Length: 1.6mm; Lead Free: LeadFree; Voltage Rating (DC): 50V; Military Standard: Not; Datasheet URL: http://www.yageo.com/NewPortal/yageodocoutput?fileName=/pdf/R-Chip/PYu-RC_Group_51_RoHS_L_5.pdf; Manufacturer URL: http://www.yageo.com/; Packaging: TapeandReel; Case Code (Metric): 1608; Min Operating Temperature: -55degC; Composition: ThickFilm; RoHSCompliant: true; Contact Plating: Tin; Datasheet Version: Rev. 5, 10/2016; REACH SVHC: NoSVHC
footprint RESC1608X55X25LL10T15 (Chip Resistor, 2-Leads, Body 1.60x0.80mm, IPC High Density)
pins: 1, 2

## Resistor
designator R306, comment 52.3
generic; Part Number: RC0402FR-0747KL; Manufacturer: Yageo / Phycomp
footprint RESC1005X40X25LL10T10 (Chip Resistor, 2-Leads, Body 1.00x0.50mm, IPC High Density)
pins: 1, 2
1 alternate drawing of the same symbol

## SMBJ6.0A-13-F
designator D41
TVS Diode (Uni-directional); Manufacturer_Name: Diodes Incorporated; Datasheet Link: https://www.mouser.com/datasheet/2/115/ds19002-1078141.pdf; Height: 2.5mm; Manufacturer_Part_Number: SMBJ6.0A-13-F; Mouser Part Number: 621-SMBJ6.0A-13-F; Mouser Price/Stock: https://www.mouser.co.uk/ProductDetail/Diodes-Incorporated/SMBJ60A-13-F?qs=gaDBXWSqsDAIOdP0T6ZIBg%3D%3D; Arrow Part Number: SMBJ6.0A-13-F; Arrow Price/Stock: https://www.arrow.com/en/products/smbj6.0a-13-f/diodes-incorporated?region=nac
footprint SMBJ12A
pins: 1 K, 2 A

## ST730M33R
designator IC42
Integrated Circuit; Manufacturer_Name: STMicroelectronics; Datasheet Link: https://www.mouser.at/datasheet/2/389/st730-1621297.pdf; Height: 1.45mm; Manufacturer_Part_Number: ST730M33R; Mouser Part Number: 511-ST730M33R; Mouser Price/Stock: https://www.mouser.co.uk/ProductDetail/STMicroelectronics/ST730M33R?qs=GedFDFLaBXHUqSNzaYM2bg%3D%3D; Arrow Part Number: ST730M33R; Arrow Price/Stock: https://www.arrow.com/en/products/st730m33r/stmicroelectronics?region=nac
footprint SOT95P280X145-5N
pins: 1 VOUT, 2 GND, 3 VIN, 4 NC/ADJ, 5 EN